# EAGLE library part µZ (library microzed)
MicroZed board Any question ? <sergebertet@yahoo.fr>
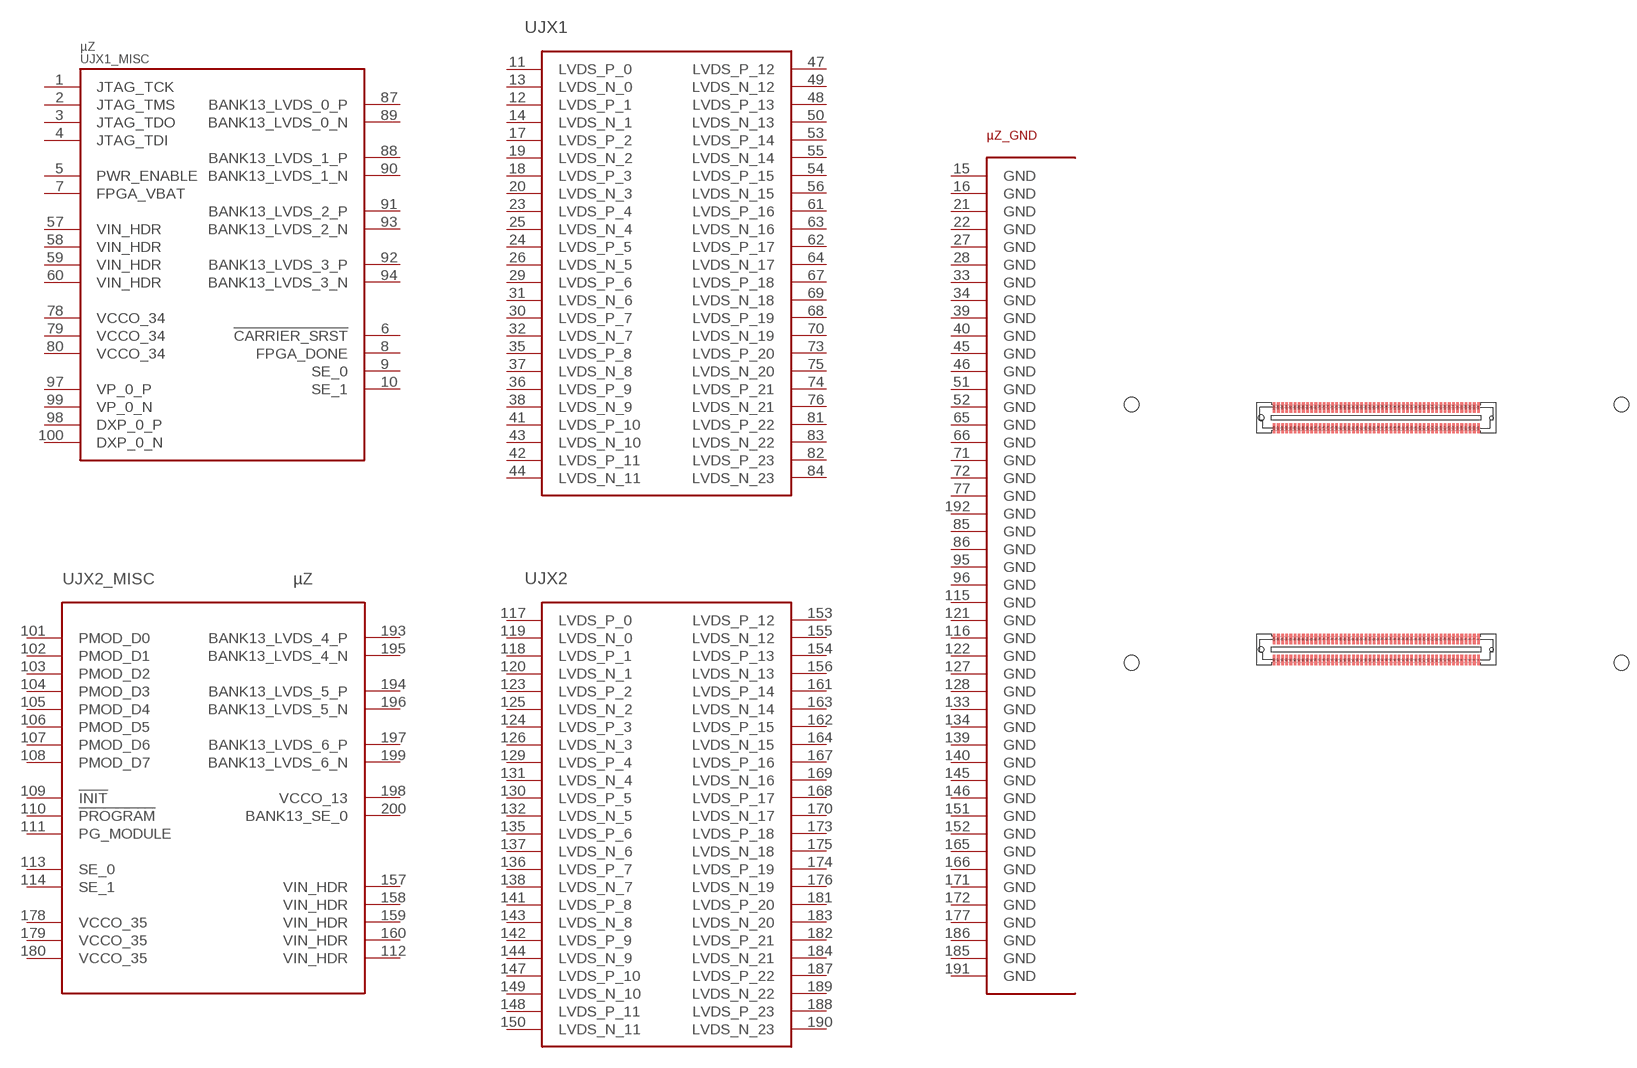
[diagram p0: symbol with the pads of µZ; footprint µZ]

Designator prefix -; gates JX1=JX_LVDS JX2=JX_LVDS GND=JX_PWR JX1_MISC=JX1_MISC JX2_MISC=JX2_MISC

## µZ  [µZ]
1  JX1_MISC:JTAG_TCK  in
2  JX1_MISC:JTAG_TMS  in
3  JX1_MISC:JTAG_TDO  out
4  JX1_MISC:JTAG_TDI  in
5  JX1_MISC:PWR_ENABLE  in
6  JX1_MISC:!CARRIER_SRST  out
7  JX1_MISC:FPGA_VBAT  pwr
8  JX1_MISC:FPGA_DONE  out
9  JX1_MISC:SE_0
10  JX1_MISC:SE_1
11  JX1:LVDS_P_0
12  JX1:LVDS_P_1
13  JX1:LVDS_N_0
14  JX1:LVDS_N_1
15  GND:GND  pwr
16  GND:GND  pwr
17  JX1:LVDS_P_2
18  JX1:LVDS_P_3
19  JX1:LVDS_N_2
20  JX1:LVDS_N_3
21  GND:GND  pwr
22  GND:GND  pwr
23  JX1:LVDS_P_4
24  JX1:LVDS_P_5
25  JX1:LVDS_N_4
26  JX1:LVDS_N_5
27  GND:GND  pwr
28  GND:GND  pwr
29  JX1:LVDS_P_6
30  JX1:LVDS_P_7
31  JX1:LVDS_N_6
32  JX1:LVDS_N_7
33  GND:GND  pwr
34  GND:GND  pwr
35  JX1:LVDS_P_8
36  JX1:LVDS_P_9
37  JX1:LVDS_N_8
38  JX1:LVDS_N_9
39  GND:GND  pwr
40  GND:GND  pwr
41  JX1:LVDS_P_10
42  JX1:LVDS_P_11
43  JX1:LVDS_N_10
44  JX1:LVDS_N_11
45  GND:GND  pwr
46  GND:GND  pwr
47  JX1:LVDS_P_12
48  JX1:LVDS_P_13
49  JX1:LVDS_N_12
50  JX1:LVDS_N_13
51  GND:GND  pwr
52  GND:GND  pwr
53  JX1:LVDS_P_14
54  JX1:LVDS_P_15
55  JX1:LVDS_N_14
56  JX1:LVDS_N_15
57  JX1_MISC:VIN_HDR  pwr
58  JX1_MISC:VIN_HDR  pwr
59  JX1_MISC:VIN_HDR  pwr
60  JX1_MISC:VIN_HDR  pwr
61  JX1:LVDS_P_16
62  JX1:LVDS_P_17
63  JX1:LVDS_N_16
64  JX1:LVDS_N_17
65  GND:GND  pwr
66  GND:GND  pwr
67  JX1:LVDS_P_18
68  JX1:LVDS_P_19
69  JX1:LVDS_N_18
70  JX1:LVDS_N_19
71  GND:GND  pwr
72  GND:GND  pwr
73  JX1:LVDS_P_20
74  JX1:LVDS_P_21
75  JX1:LVDS_N_20
76  JX1:LVDS_N_21
77  GND:GND  pwr
78  JX1_MISC:VCCO_34  pwr
79  JX1_MISC:VCCO_34  pwr
80  JX1_MISC:VCCO_34  pwr
81  JX1:LVDS_P_22
82  JX1:LVDS_P_23
83  JX1:LVDS_N_22
84  JX1:LVDS_N_23
85  GND:GND  pwr
86  GND:GND  pwr
87  JX1_MISC:BANK13_LVDS_0_P  out
88  JX1_MISC:BANK13_LVDS_1_P  out
89  JX1_MISC:BANK13_LVDS_0_N  out
90  JX1_MISC:BANK13_LVDS_1_N  out
91  JX1_MISC:BANK13_LVDS_2_P  out
92  JX1_MISC:BANK13_LVDS_3_P  out
93  JX1_MISC:BANK13_LVDS_2_N  out
94  JX1_MISC:BANK13_LVDS_3_N  out
95  GND:GND  pwr
96  GND:GND  pwr
97  JX1_MISC:VP_0_P  out
98  JX1_MISC:DXP_0_P  out
99  JX1_MISC:VP_0_N  out
100  JX1_MISC:DXP_0_N  out
101  JX2_MISC:PMOD_D0
102  JX2_MISC:PMOD_D1
103  JX2_MISC:PMOD_D2
104  JX2_MISC:PMOD_D3
105  JX2_MISC:PMOD_D4
106  JX2_MISC:PMOD_D5
107  JX2_MISC:PMOD_D6
108  JX2_MISC:PMOD_D7
109  JX2_MISC:!INIT  in
110  JX2_MISC:!PROGRAM  in
111  JX2_MISC:PG_MODULE  out
112  JX2_MISC:VIN_HDR  pwr
113  JX2_MISC:SE_0
114  JX2_MISC:SE_1
115  GND:GND  pwr
116  GND:GND  pwr
117  JX2:LVDS_P_0
118  JX2:LVDS_P_1
119  JX2:LVDS_N_0
120  JX2:LVDS_N_1
121  GND:GND  pwr
122  GND:GND  pwr
123  JX2:LVDS_P_2
124  JX2:LVDS_P_3
125  JX2:LVDS_N_2
126  JX2:LVDS_N_3
127  GND:GND  pwr
128  GND:GND  pwr
129  JX2:LVDS_P_4
130  JX2:LVDS_P_5
131  JX2:LVDS_N_4
132  JX2:LVDS_N_5
133  GND:GND  pwr
134  GND:GND  pwr
135  JX2:LVDS_P_6
136  JX2:LVDS_P_7
137  JX2:LVDS_N_6
138  JX2:LVDS_N_7
139  GND:GND  pwr
140  GND:GND  pwr
141  JX2:LVDS_P_8
142  JX2:LVDS_P_9
143  JX2:LVDS_N_8
144  JX2:LVDS_N_9
145  GND:GND  pwr
146  GND:GND  pwr
147  JX2:LVDS_P_10
148  JX2:LVDS_P_11
149  JX2:LVDS_N_10
150  JX2:LVDS_N_11
151  GND:GND  pwr
152  GND:GND  pwr
153  JX2:LVDS_P_12
154  JX2:LVDS_P_13
155  JX2:LVDS_N_12
156  JX2:LVDS_N_13
157  JX2_MISC:VIN_HDR  pwr
158  JX2_MISC:VIN_HDR  pwr
159  JX2_MISC:VIN_HDR  pwr
160  JX2_MISC:VIN_HDR  pwr
161  JX2:LVDS_P_14
162  JX2:LVDS_P_15
163  JX2:LVDS_N_14
164  JX2:LVDS_N_15
165  GND:GND  pwr
166  GND:GND  pwr
167  JX2:LVDS_P_16
168  JX2:LVDS_P_17
169  JX2:LVDS_N_16
170  JX2:LVDS_N_17
171  GND:GND  pwr
172  GND:GND  pwr
173  JX2:LVDS_P_18
174  JX2:LVDS_P_19
175  JX2:LVDS_N_18
176  JX2:LVDS_N_19
177  GND:GND  pwr
178  JX2_MISC:VCCO_35  pwr
179  JX2_MISC:VCCO_35  pwr
180  JX2_MISC:VCCO_35  pwr
181  JX2:LVDS_P_20
182  JX2:LVDS_P_21
183  JX2:LVDS_N_20
184  JX2:LVDS_N_21
185  GND:GND  pwr
186  GND:GND  pwr
187  JX2:LVDS_P_22
188  JX2:LVDS_P_23
189  JX2:LVDS_N_22
190  JX2:LVDS_N_23
191  GND:GND  pwr
192  GND:GND  pwr
193  JX2_MISC:BANK13_LVDS_4_P
194  JX2_MISC:BANK13_LVDS_5_P
195  JX2_MISC:BANK13_LVDS_4_N
196  JX2_MISC:BANK13_LVDS_5_N
197  JX2_MISC:BANK13_LVDS_6_P
198  JX2_MISC:VCCO_13  pwr
199  JX2_MISC:BANK13_LVDS_6_N
200  JX2_MISC:BANK13_SE_0

## Footprint µZ (pad centres in mm)
smd 0.5 x 2: 1 70.351,4.349; 2 70.351,8.349; 3 69.551,4.349; 4 69.551,8.349; 5 68.751,4.349; 6 68.751,8.349; 7 67.951,4.349; 8 67.951,8.349; 9 67.151,4.349; 10 67.151,8.349; 11 66.351,4.349; 12 66.351,8.349; 13 65.551,4.349; 14 65.551,8.349; 15 64.751,4.349; 16 64.751,8.349; 17 63.951,4.349; 18 63.951,8.349; 19 63.151,4.349; 20 63.151,8.349; 21 62.351,4.349; 22 62.351,8.349; 23 61.551,4.349; 24 61.551,8.349; 25 60.751,4.349; 26 60.751,8.349; 27 59.951,4.349; 28 59.951,8.349; 29 59.151,4.349; 30 59.151,8.349; 31 58.351,4.349; 32 58.351,8.349; 33 57.551,4.349; 34 57.551,8.349; 35 56.751,4.349; 36 56.751,8.349; 37 55.951,4.349; 38 55.951,8.349; 39 55.151,4.349; 40 55.151,8.349; 41 54.351,4.349; 42 54.351,8.349; 43 53.551,4.349; 44 53.551,8.349; 45 52.751,4.349; 46 52.751,8.349; 47 51.951,4.349; 48 51.951,8.349; 49 51.151,4.349; 50 51.151,8.349; 51 50.351,4.349; 52 50.351,8.349; 53 49.551,4.349; 54 49.551,8.349; 55 48.751,4.349; 56 48.751,8.349; 57 47.951,4.349; 58 47.951,8.349; 59 47.151,4.349; 60 47.151,8.349; 61 46.351,4.349; 62 46.351,8.349; 63 45.551,4.349; 64 45.551,8.349; 65 44.751,4.349; 66 44.751,8.349; 67 43.951,4.349; 68 43.951,8.349; 69 43.151,4.349; 70 43.151,8.349; 71 42.351,4.349; 72 42.351,8.349; 73 41.551,4.349; 74 41.551,8.349; 75 40.751,4.349; 76 40.751,8.349; 77 39.951,4.349; 78 39.951,8.349; 79 39.151,4.349; 80 39.151,8.349; 81 38.351,4.349; 82 38.351,8.349; 83 37.551,4.349; 84 37.551,8.349; 85 36.751,4.349; 86 36.751,8.349; 87 35.951,4.349; 88 35.951,8.349; 89 35.151,4.349; 90 35.151,8.349; 91 34.351,4.349; 92 34.351,8.349; 93 33.551,4.349; 94 33.551,8.349; 95 32.751,4.349; 96 32.751,8.349; 97 31.951,4.349; 98 31.951,8.349; 99 31.151,4.349; 100 31.151,8.349; 101 70.351,48.801; 102 70.351,52.801; 103 69.551,48.801; 104 69.551,52.801; 105 68.751,48.801; 106 68.751,52.801; 107 67.951,48.801; 108 67.951,52.801; 109 67.151,48.801; 110 67.151,52.801; 111 66.351,48.801; 112 66.351,52.801; 113 65.551,48.801; 114 65.551,52.801; 115 64.751,48.801; 116 64.751,52.801; 117 63.951,48.801; 118 63.951,52.801; 119 63.151,48.801; 120 63.151,52.801; 121 62.351,48.801; 122 62.351,52.801; 123 61.551,48.801; 124 61.551,52.801; 125 60.751,48.801; 126 60.751,52.801; 127 59.951,48.801; 128 59.951,52.801; 129 59.151,48.801; 130 59.151,52.801; 131 58.351,48.801; 132 58.351,52.801; 133 57.551,48.801; 134 57.551,52.801; 135 56.751,48.801; 136 56.751,52.801; 137 55.951,48.801; 138 55.951,52.801; 139 55.151,48.801; 140 55.151,52.801; 141 54.351,48.801; 142 54.351,52.801; 143 53.551,48.801; 144 53.551,52.801; 145 52.751,48.801; 146 52.751,52.801; 147 51.951,48.801; 148 51.951,52.801; 149 51.151,48.801; 150 51.151,52.801; 151 50.351,48.801; 152 50.351,52.801; 153 49.551,48.801; 154 49.551,52.801; 155 48.751,48.801; 156 48.751,52.801; 157 47.951,48.801; 158 47.951,52.801; 159 47.151,48.801; 160 47.151,52.801; 161 46.351,48.801; 162 46.351,52.801; 163 45.551,48.801; 164 45.551,52.801; 165 44.751,48.801; 166 44.751,52.801; 167 43.951,48.801; 168 43.951,52.801; 169 43.151,48.801; 170 43.151,52.801; 171 42.351,48.801; 172 42.351,52.801; 173 41.551,48.801; 174 41.551,52.801; 175 40.751,48.801; 176 40.751,52.801; 177 39.951,48.801; 178 39.951,52.801; 179 39.151,48.801; 180 39.151,52.801; 181 38.351,48.801; 182 38.351,52.801; 183 37.551,48.801; 184 37.551,52.801; 185 36.751,48.801; 186 36.751,52.801; 187 35.951,48.801; 188 35.951,52.801; 189 35.151,48.801; 190 35.151,52.801; 191 34.351,48.801; 192 34.351,52.801; 193 33.551,48.801; 194 33.551,52.801; 195 32.751,48.801; 196 32.751,52.801; 197 31.951,48.801; 198 31.951,52.801; 199 31.151,48.801; 200 31.151,52.801
hole 2.8 at 3.81,3.81
hole 2.8 at 3.81,53.34
hole 2.8 at 97.79,3.81
hole 2.8 at 97.79,53.34
hole 1.1 at 28.651,6.349
hole 0.7 at 72.851,6.349
hole 1.1 at 28.651,50.801
hole 0.7 at 72.851,50.801